# EAGLE library part 4455-A06_S (library con-molex-kk)
RECEPTACLE
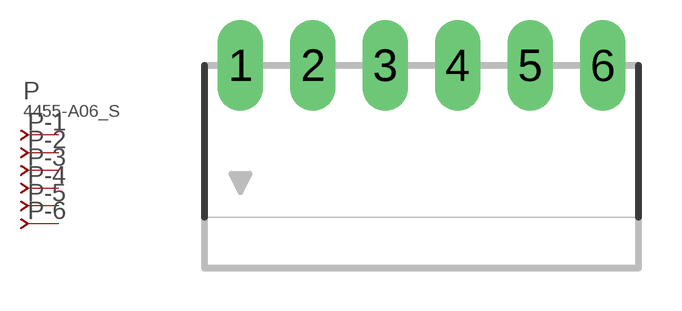
[diagram p119: symbol with the pads of 4455-A06; footprint 4455-A06]

Designator prefix P; gates -1=J-NV -2=J-N -3=J-N -4=J-N -5=J-N -6=J-N

## 4455-A06_S  [4455-A06]
1  -1:J  pas
2  -2:J  pas
3  -3:J  pas
4  -4:J  pas
5  -5:J  pas
6  -6:J  pas

## Footprint 4455-A06 (pad centres in mm)
RECEPTACAL Right Angle, 0.1" pitch
drill 1.067 long: 1 -6.35,0; 2 -3.81,0; 3 -1.27,0; 4 1.27,0; 5 3.81,0; 6 6.35,0